# Altium schematic symbol library con_molex_4_52207-0433.SchLib: 1 symbol
Pins are listed as number, name and electrical type; pins without a type are passive.

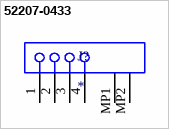
[diagram p0: symbol 52207-0433]

## 52207-0433
designator J?
footprint 52207-0433
pins: 1, 2, 3, 4, MP1, MP2